# EAGLE library part SN8000UFL (library murata-wifi)
2.4 GHz IEEE 802.11b/g/n Wi-Fi module
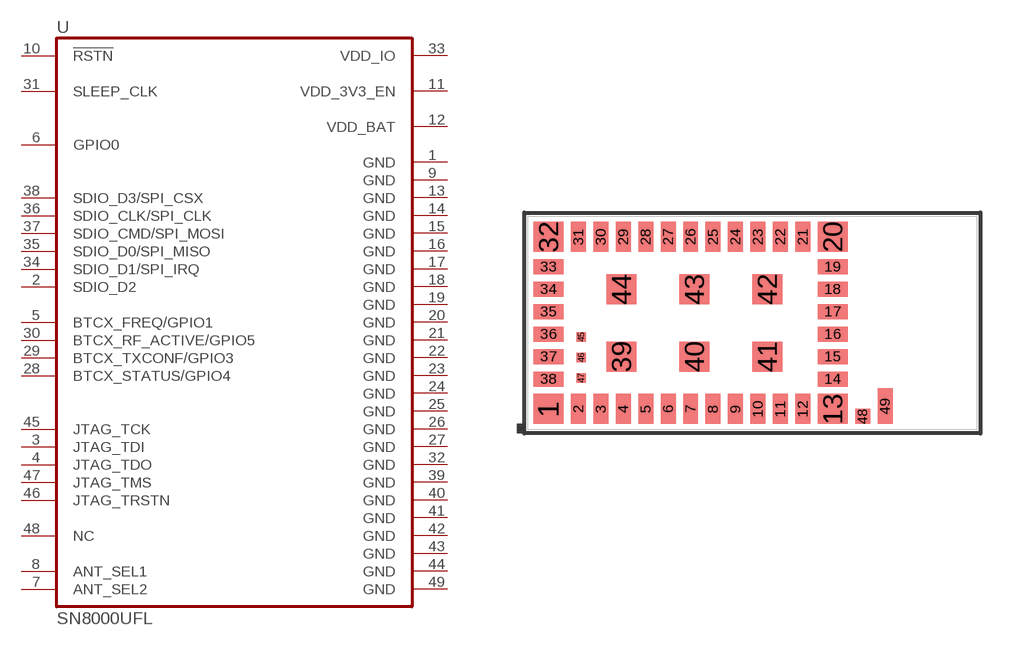
[diagram p0: symbol with the pads of SN8000; footprint SN8000]

Designator prefix U

## SN8000UFL  [SN8000]
1  GND  pwr
2  SDIO_D2
3  JTAG_TDI
4  JTAG_TDO
5  BTCX_FREQ/GPIO1
6  GPIO0  in
7  ANT_SEL2
8  ANT_SEL1
9  GND  pwr
10  !RSTN!  in
11  VDD_3V3_EN  pwr
12  VDD_BAT  pwr
13  GND  pwr
14  GND  pwr
15  GND  pwr
16  GND  pwr
17  GND  pwr
18  GND  pwr
19  GND  pwr
20  GND  pwr
21  GND  pwr
22  GND  pwr
23  GND  pwr
24  GND  pwr
25  GND  pwr
26  GND  pwr
27  GND  pwr
28  BTCX_STATUS/GPIO4
29  BTCX_TXCONF/GPIO3
30  BTCX_RF_ACTIVE/GPIO5
31  SLEEP_CLK
32  GND  pwr
33  VDD_IO  pwr
34  SDIO_D1/SPI_IRQ
35  SDIO_D0/SPI_MISO
36  SDIO_CLK/SPI_CLK
37  SDIO_CMD/SPI_MOSI
38  SDIO_D3/SPI_CSX
39  GND  pwr
40  GND  pwr
41  GND  pwr
42  GND  pwr
43  GND  pwr
44  GND  pwr
45  JTAG_TCK
46  JTAG_TRSTN
47  JTAG_TMS
48  NC
49  GND  pwr

## Footprint SN8000 (pad centres in mm)
WiFi MODULE
smd 1.6 x 1.6: 1 1.1,-4.6; 13 16.3,-4.6; 20 16.3,4.6; 32 1.1,4.6; 39 5,-1.8; 40 8.9,-1.8; 41 12.8,-1.8; 42 12.8,1.8; 43 8.9,1.8; 44 5,1.8
smd 0.8 x 1.6: 2 2.7,-4.6; 3 3.9,-4.6; 4 5.1,-4.6; 5 6.3,-4.6; 6 7.5,-4.6; 7 8.7,-4.6; 8 9.9,-4.6; 9 11.1,-4.6; 10 12.3,-4.6; 11 13.5,-4.6; 12 14.7,-4.6; 21 14.7,4.6; 22 13.5,4.6; 23 12.3,4.6; 24 11.1,4.6; 25 9.9,4.6; 26 8.7,4.6; 27 7.5,4.6; 28 6.3,4.6; 29 5.1,4.6; 30 3.9,4.6; 31 2.7,4.6
smd 1.6 x 0.8: 14 16.3,-3; 15 16.3,-1.8; 16 16.3,-0.6; 17 16.3,0.6; 18 16.3,1.8; 19 16.3,3; 33 1.1,3; 34 1.1,1.8; 35 1.1,0.6; 36 1.1,-0.6; 37 1.1,-1.8; 38 1.1,-3
smd 0.5 x 0.5: 45 2.85,-0.75; 46 2.85,-1.85; 47 2.85,-2.95
smd 0.8 x 0.8: 48 17.9,-5
smd 0.8 x 1.9: 49 19.1,-4.45